# Altium footprint library SON10-SPE-TPS54361.PcbLib: 1 footprints
Each footprint in its own frame and in the unit in brackets; x right, y up, seen from the top. Pads: shape width x height; smd on the part's side, far side on the other; paste and mask are expansions set on the pad; w line width, h text height; cw(c..) or ccw(c..) is an arc to the next point about the centre after c.
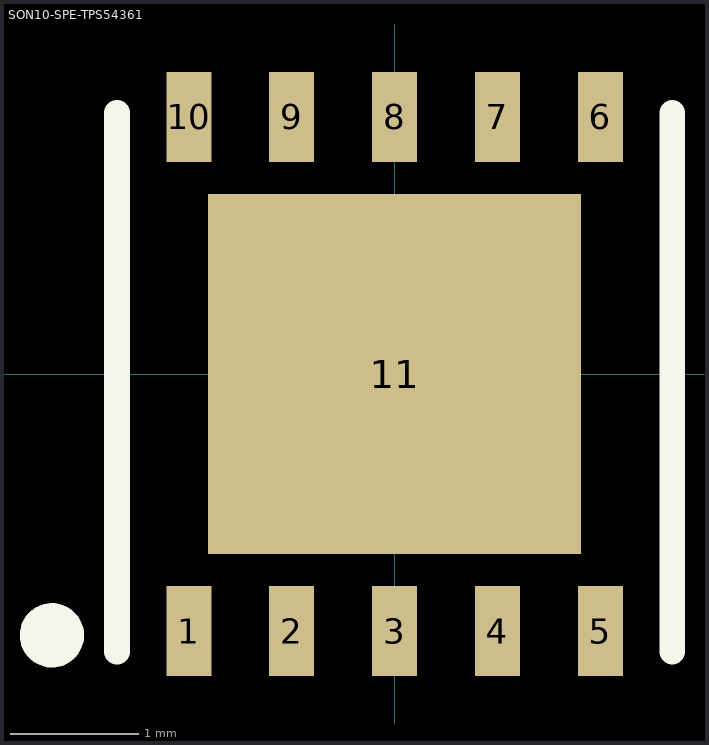
[diagram p0: the footprint, top view; thin cyan lines are the x and y axes]

## SON10-SPE-TPS54361 [mm]
height 0.8
pads (11):
  rect 0.35x0.7 smd: 1(-1.6,-2) 2(-0.8,-2) 3(0,-2) 4(0.8,-2) 5(1.6,-2) 6(1.6,2) 7(0.8,2) 8(0,2) 9(-0.8,2) 10(-1.6,2)
  rect 2.9x2.8 smd: 11(0,0)
Top Overlay:
  circle w0.25: c-2.665,-2.032 r0.125
  lines w0.2: -2.159,-2.159 -2.159,2.032 ; 2.159,-2.159 2.159,2.032
3D body: height 0.8, standoff 0, extent -2.095,-2.032 2.095,2.032